# EAGLE library part 1X24_5MM (library DECADE-libraries20151104)
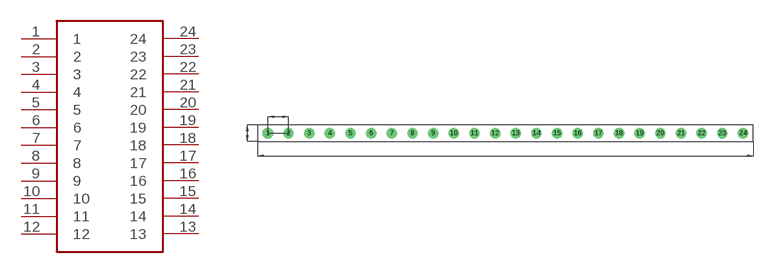
[diagram p108: symbol with the pads of 1X24_5MM; footprint 1X24_5MM]

Designator prefix -

## 1X24_5MM  [1X24_5MM]
1  1
2  2
3  3
4  4
5  5
6  6
7  7
8  8
9  9
10  10
11  11
12  12
13  13
14  14
15  15
16  16
17  17
18  18
19  19
20  20
21  21
22  22
23  23
24  24

## Footprint 1X24_5MM (pad centres in mm)
drill 1.5 pad 2.5 octagon: 1 0,0
drill 1.5 pad 2.5: 2 5,0; 3 10,0; 4 15,0; 5 20,0; 6 25,0; 7 30,0; 8 35,0; 9 40,0; 10 45,0; 11 50,0; 12 55,0; 13 60,0; 14 65,0; 15 70,0; 16 75,0; 17 80,0; 18 85,0; 19 90,0; 20 95,0; 21 100,0; 22 105,0; 23 110,0; 24 115,0